# Altium footprint library EST_PCB.PcbLib: 28 footprints (part 2 of 2)
Each footprint in its own frame and in the unit in brackets; x right, y up, seen from the top. Pads: shape width x height; smd on the part's side, far side on the other; paste and mask are expansions set on the pad; w line width, h text height; cw(c..) or ccw(c..) is an arc to the next point about the centre after c.
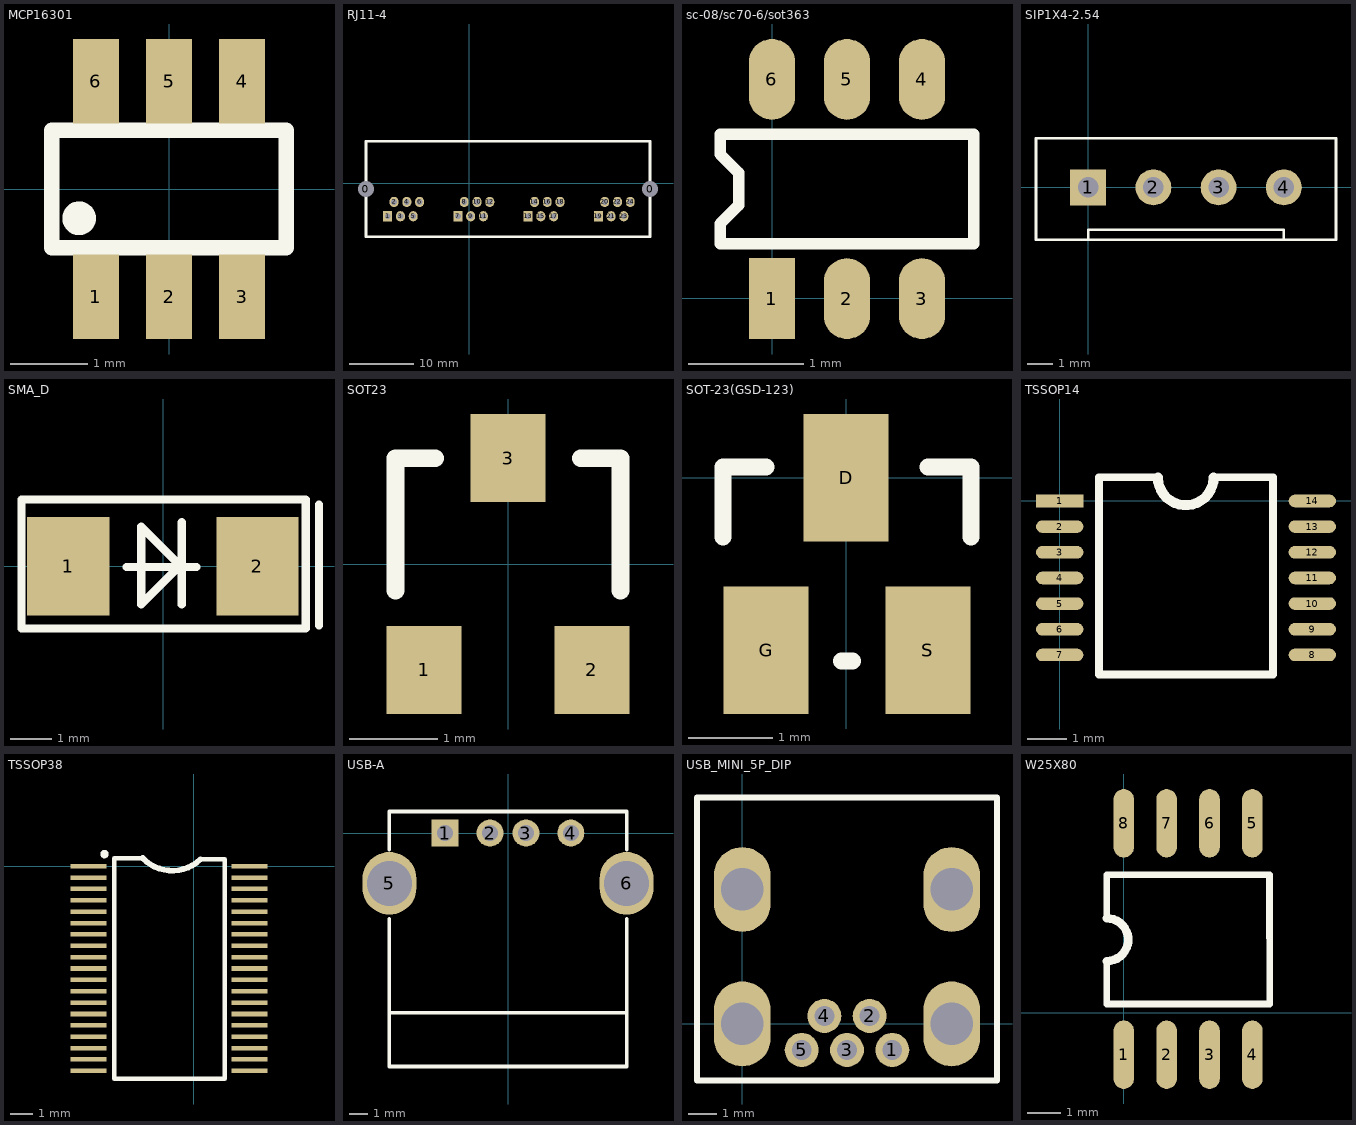
[diagram p1: the footprints below, top view; thin cyan lines are the x and y axes]

## MCP16301 [mm] "Microchip"
height 3
pads (6):
  rect 0.6x1.1 smd: 1(-0.95,-1.4) 2(0,-1.4) 3(0.95,-1.4) 4(0.95,1.4) 5(0,1.4) 6(-0.95,1.4)
Top Overlay:
  circle w0.254: c-1.168,-0.381 r0.092
  lines w0.2: -1.524,-0.762 1.524,-0.762 1.524,0.762 -1.524,0.762 -1.524,-0.762

## RJ11-4 [mm]
height 14
pads (26):
  round 2.2 hole 2.5: 0(-16.179,-0.9) 0(28.321,-0.9)
  rect 1.4x1.6 hole 0.9: 1(-12.779,-5.175) 7(-1.779,-5.175) 13(9.221,-5.175) 19(20.221,-5.175)
  oval 1.4x1.6 hole 0.9: 2(-11.779,-2.921) 3(-10.779,-5.175) 4(-9.779,-2.921) 5(-8.779,-5.175) 6(-7.779,-2.921) 8(-0.779,-2.921) 9(0.221,-5.175) 10(1.221,-2.921) 11(2.221,-5.175) 12(3.221,-2.921) 14(10.221,-2.921) 15(11.221,-5.175) 16(12.221,-2.921) 17(13.221,-5.175) 18(14.221,-2.921) 20(21.221,-2.921) 21(22.221,-5.175) 22(23.221,-2.921) 23(24.221,-5.175) 24(25.221,-2.921)
Top Overlay:
  lines w0.4: -16.179,-8.4 28.321,-8.4 28.321,6.6 -16.179,6.6 -16.179,-8.4

## sc-08/sc70-6/sot363 [mm]
pads (6):
  rect 0.4x0.7 smd: 1(-0.004,-0.003)
  oval 0.4x0.7 smd: 2(0.646,-0.003) 3(1.296,-0.003) 4(1.296,1.897) 5(0.646,1.897) 6(-0.004,1.897)
Top Overlay:
  lines w0.1: -0.454,0.474 1.746,0.474 1.746,1.42 -0.454,1.42 -0.454,1.247 -0.294,1.086 -0.294,0.807 -0.454,0.647 -0.454,0.474

## SIP1X4-2.54 [mm]
pads (4):
  rect 1.4x1.4 hole 0.8: 1(0,0)
  round 1.4 hole 0.8: 2(2.54,0) 3(5.08,0) 4(7.62,0)
Top Overlay:
  lines w0.1: -2.032,-2.032 9.652,-2.032 ; -2.032,1.905 9.652,1.905
  lines w0.102: -2.032,-2.032 -2.032,1.905 ; 0,-2.032 0,-1.651 7.62,-1.651 7.62,-2.032 ; 9.652,-2.032 9.652,1.905

## SMA_D [mm]
pads (2):
  rect 2x2.4 smd: 1(-2.311,0) 2(2.3,0)
Top Overlay:
  lines w0.2: -0.889,-0.025 0.813,-0.025 ; 0.381,-0.025 -0.533,-0.94 -0.533,0.965 0.381,0.051 ; 0.457,-0.94 0.457,1.067 ; 3.8,-1.45 3.8,1.5 ; -3.45,-1.525 -3.45,1.625 3.475,1.625 3.475,-1.525 -3.45,-1.525

## SOT23 [mm] "SOT-23; 3 Leads; Body 3.0 x 2.5 mm, inc. leads (LxW max)"
height 1.1
pads (3):
  rect 0.85x1 smd: 1(-0.95,-1.2) 2(0.95,-1.2) 3(0,1.2)
Top Overlay:
  lines w0.2: -1.275,-0.3 -1.275,1.2 -0.825,1.2 ; 0.825,1.2 1.275,1.2 1.275,-0.3

## SOT-23(GSD-123) [mm]
pads (3):
  rect 1x1.5 smd: D(0,0) G(-0.941,-2.032) S(0.964,-2.032)
Top Overlay:
  lines w0.2: -1.449,-0.7 -1.449,0.127 -0.941,0.127 ; -0.052,-2.159 0.075,-2.159 ; 0.964,0.127 1.472,0.127 1.472,-0.7

## TSSOP14 [mm]
pads (14):
  rect 1.2x0.32 smd: 1(0,0)
  oval 1.2x0.32 smd: 2(0,-0.65) 3(0,-1.3) 4(0,-1.95) 5(0,-2.6) 6(0,-3.25) 7(0,-3.9) 8(6.4,-3.9) 9(6.4,-3.25) 10(6.4,-2.6) 11(6.4,-1.95) 12(6.4,-1.3) 13(6.4,-0.65) 14(6.4,0)
Top Overlay:
  lines w0.2: 2.487,0.6 1,0.6 1,-4.4 5.4,-4.4 5.4,0.6 3.9,0.6
  lines w0.254: 2.487,0.6 ccw(c3.194,0.6) 3.9,0.6

## TSSOP38 [mm]
height 2
pads (38):
  rect 1.6x0.2 smd: 1(-4.623,0) 2(-4.623,-0.5) 3(-4.623,-1) 4(-4.623,-1.5) 5(-4.623,-2) 6(-4.623,-2.5) 7(-4.623,-3) 8(-4.623,-3.5) 9(-4.623,-4) 10(-4.623,-4.5) 11(-4.623,-5) 12(-4.623,-5.5) 13(-4.623,-6) 14(-4.623,-6.5) 15(-4.623,-7) 16(-4.623,-7.5) 17(-4.623,-8) 18(-4.623,-8.5) 19(-4.623,-9) 20(2.464,-9) 21(2.464,-8.5) 22(2.464,-8) 23(2.464,-7.5) 24(2.464,-7) 25(2.464,-6.5) 26(2.464,-6) 27(2.464,-5.5) 28(2.464,-5) 29(2.464,-4.5) 30(2.464,-4) 31(2.464,-3.5) 32(2.464,-3) 33(2.464,-2.5) 34(2.464,-2) 35(2.464,-1.5) 36(2.464,-1) 37(2.464,-0.5) 38(2.464,0)
Top Overlay:
  circle w0.254: c-3.918,0.533 r0.057
  lines w0.2: -2.235,0.356 -3.48,0.356 -3.48,-9.347 1.372,-9.347 1.372,0.305 0.305,0.305
  lines w0.254: -2.235,0.356 ccw(c-0.94,1.6) 0.305,0.305

## USB-A [mm]
pads (6):
  rect 1.5x1.5 hole 0.9: 1(-3.5,0)
  round 1.5 hole 0.9: 2(-1,0) 3(1,0) 4(3.5,0)
  oval 3x3.5 hole 2.5: 5(-6.6,-2.8) 6(6.6,-2.8)
Top Overlay:
  lines w0.2: -6.6,-10 6.6,-10 ; -6.6,-4.775 -6.6,-13 6.6,-13 6.6,-4.775 ; -6.6,-0.94 -6.6,1.2 6.6,1.2 6.6,-0.94

## USB_MINI_5P_DIP [mm]
pads (9):
  round 1.2 hole 0.7: 1(5.3,-0.92) 2(4.5,0.28) 3(3.7,-0.92) 4(2.9,0.28) 5(2.1,-0.92)
  oval 2x3 hole 1.5: ""(0,0) ""(0,4.75) ""(7.4,0) ""(7.4,4.75)
Top Overlay:
  lines w0.2: -1.6,-2 9,-2 9,8 -1.6,8 -1.6,-2

## W25X80 [mil]
pads (8):
  oval 24x80 smd: 1(-0.17,-49.21) 2(49.83,-49.21) 3(99.83,-49.21) 4(149.83,-49.21) 5(149.83,220.79) 6(99.83,220.79) 7(49.83,220.79) 8(-0.17,220.79)
Top Overlay:
  lines w7.87: -20,60 -20,10 170,10 169.83,160.79 -20.17,160.79 -20,110
  lines w10: -20,60 ccw(c-20,85) -20,110